# EAGLE library part DSPIC33EP512MC806-I/PT (library DSPIC33EP512MC806)
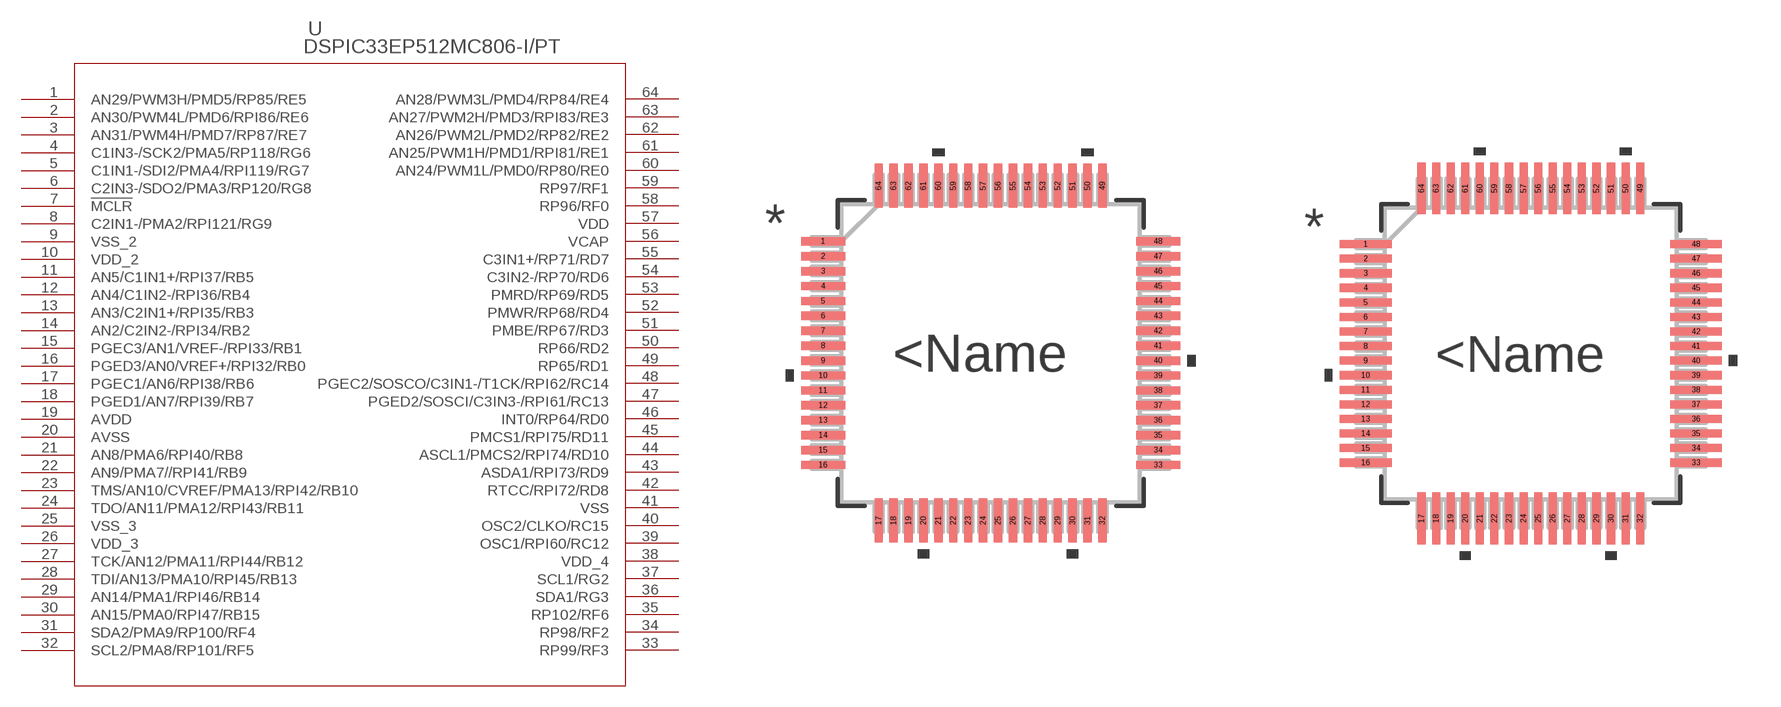
[diagram p0: symbol with the pads of TQFP64_10X10MC; footprints TQFP64_10X10MC, TQFP64_10X10MC-M]

Designator prefix -

## DSPIC33EP512MC806-I/PT (MANUFACTURER_PART_NUMBER: dspic33ep512mc806ipt; VENDOR: MICROCHIP)  [TQFP64_10X10MC]
1  AN29/PWM3H/PMD5/RP85/RE5
2  AN30/PWM4L/PMD6/RPI86/RE6
3  AN31/PWM4H/PMD7/RP87/RE7
4  C1IN3-/SCK2/PMA5/RP118/RG6
5  C1IN1-/SDI2/PMA4/RPI119/RG7
6  C2IN3-/SDO2/PMA3/RP120/RG8
7  !MCLR  pas
8  C2IN1-/PMA2/RPI121/RG9
9  VSS_2  pwr
10  VDD_2  pwr
11  AN5/C1IN1+/RPI37/RB5
12  AN4/C1IN2-/RPI36/RB4
13  AN3/C2IN1+/RPI35/RB3
14  AN2/C2IN2-/RPI34/RB2
15  PGEC3/AN1/VREF-/RPI33/RB1
16  PGED3/AN0/VREF+/RPI32/RB0
17  PGEC1/AN6/RPI38/RB6
18  PGED1/AN7/RPI39/RB7
19  AVDD  pwr
20  AVSS  pwr
21  AN8/PMA6/RPI40/RB8
22  AN9/PMA7//RPI41/RB9
23  TMS/AN10/CVREF/PMA13/RPI42/RB10
24  TDO/AN11/PMA12/RPI43/RB11
25  VSS_3  pwr
26  VDD_3  pwr
27  TCK/AN12/PMA11/RPI44/RB12
28  TDI/AN13/PMA10/RPI45/RB13
29  AN14/PMA1/RPI46/RB14
30  AN15/PMA0/RPI47/RB15
31  SDA2/PMA9/RP100/RF4
32  SCL2/PMA8/RP101/RF5
33  RP99/RF3
34  RP98/RF2
35  RP102/RF6
36  SDA1/RG3
37  SCL1/RG2
38  VDD_4  pwr
39  OSC1/RPI60/RC12
40  OSC2/CLKO/RC15
41  VSS  pwr
42  RTCC/RPI72/RD8
43  ASDA1/RPI73/RD9
44  ASCL1/PMCS2/RPI74/RD10
45  PMCS1/RPI75/RD11
46  INT0/RP64/RD0
47  PGED2/SOSCI/C3IN3-/RPI61/RC13
48  PGEC2/SOSCO/C3IN1-/T1CK/RPI62/RC14
49  RP65/RD1
50  RP66/RD2
51  PMBE/RP67/RD3
52  PMWR/RP68/RD4
53  PMRD/RP69/RD5
54  C3IN2-/RP70/RD6
55  C3IN1+/RP71/RD7
56  VCAP  pwr
57  VDD  pwr
58  RP96/RF0
59  RP97/RF1
60  AN24/PWM1L/PMD0/RP80/RE0
61  AN25/PWM1H/PMD1/RPI81/RE1
62  AN26/PWM2L/PMD2/RP82/RE2
63  AN27/PWM2H/PMD3/RPI83/RE3
64  AN28/PWM3L/PMD4/RP84/RE4

## DSPIC33EP512MC806-I/PTTQFP64_10X10MC-M (MANUFACTURER_PART_NUMBER: dspic33ep512mc806ipt; VENDOR: MICROCHIP)  [TQFP64_10X10MC-M]
Pads as for TQFP64_10X10MC

## DSPIC33EP512MC806-I/PTTQFP64_10X10MC-L (MANUFACTURER_PART_NUMBER: dspic33ep512mc806ipt; VENDOR: MICROCHIP)  [TQFP64_10X10MC-L]
Pads as for TQFP64_10X10MC

## Footprint TQFP64_10X10MC (pad centres in mm)
smd 1.473 x 0.279: 1 -5.613,3.75; 2 -5.613,3.25; 3 -5.613,2.75; 4 -5.613,2.25; 5 -5.613,1.75; 6 -5.613,1.25; 7 -5.613,0.75; 8 -5.613,0.25; 9 -5.613,-0.25; 10 -5.613,-0.75; 11 -5.613,-1.25; 12 -5.613,-1.75; 13 -5.613,-2.25; 14 -5.613,-2.75; 15 -5.613,-3.25; 16 -5.613,-3.75; 33 5.613,-3.75; 34 5.613,-3.25; 35 5.613,-2.75; 36 5.613,-2.25; 37 5.613,-1.75; 38 5.613,-1.25; 39 5.613,-0.75; 40 5.613,-0.25; 41 5.613,0.25; 42 5.613,0.75; 43 5.613,1.25; 44 5.613,1.75; 45 5.613,2.25; 46 5.613,2.75; 47 5.613,3.25; 48 5.613,3.75
smd 0.279 x 1.473: 17 -3.75,-5.613; 18 -3.25,-5.613; 19 -2.75,-5.613; 20 -2.25,-5.613; 21 -1.75,-5.613; 22 -1.25,-5.613; 23 -0.75,-5.613; 24 -0.25,-5.613; 25 0.25,-5.613; 26 0.75,-5.613; 27 1.25,-5.613; 28 1.75,-5.613; 29 2.25,-5.613; 30 2.75,-5.613; 31 3.25,-5.613; 32 3.75,-5.613; 49 3.75,5.613; 50 3.25,5.613; 51 2.75,5.613; 52 2.25,5.613; 53 1.75,5.613; 54 1.25,5.613; 55 0.75,5.613; 56 0.25,5.613; 57 -0.25,5.613; 58 -0.75,5.613; 59 -1.25,5.613; 60 -1.75,5.613; 61 -2.25,5.613; 62 -2.75,5.613; 63 -3.25,5.613; 64 -3.75,5.613

## Footprint TQFP64_10X10MC-M (pad centres in mm)
smd 1.778 x 0.279: 1 -5.664,3.75; 2 -5.664,3.25; 3 -5.664,2.75; 4 -5.664,2.25; 5 -5.664,1.75; 6 -5.664,1.25; 7 -5.664,0.75; 8 -5.664,0.25; 9 -5.664,-0.25; 10 -5.664,-0.75; 11 -5.664,-1.25; 12 -5.664,-1.75; 13 -5.664,-2.25; 14 -5.664,-2.75; 15 -5.664,-3.25; 16 -5.664,-3.75; 33 5.664,-3.75; 34 5.664,-3.25; 35 5.664,-2.75; 36 5.664,-2.25; 37 5.664,-1.75; 38 5.664,-1.25; 39 5.664,-0.75; 40 5.664,-0.25; 41 5.664,0.25; 42 5.664,0.75; 43 5.664,1.25; 44 5.664,1.75; 45 5.664,2.25; 46 5.664,2.75; 47 5.664,3.25; 48 5.664,3.75
smd 0.279 x 1.778: 17 -3.75,-5.664; 18 -3.25,-5.664; 19 -2.75,-5.664; 20 -2.25,-5.664; 21 -1.75,-5.664; 22 -1.25,-5.664; 23 -0.75,-5.664; 24 -0.25,-5.664; 25 0.25,-5.664; 26 0.75,-5.664; 27 1.25,-5.664; 28 1.75,-5.664; 29 2.25,-5.664; 30 2.75,-5.664; 31 3.25,-5.664; 32 3.75,-5.664; 49 3.75,5.664; 50 3.25,5.664; 51 2.75,5.664; 52 2.25,5.664; 53 1.75,5.664; 54 1.25,5.664; 55 0.75,5.664; 56 0.25,5.664; 57 -0.25,5.664; 58 -0.75,5.664; 59 -1.25,5.664; 60 -1.75,5.664; 61 -2.25,5.664; 62 -2.75,5.664; 63 -3.25,5.664; 64 -3.75,5.664

## Footprint TQFP64_10X10MC-L (pad centres in mm)
smd 1.168 x 0.279: 1 -5.563,3.75; 2 -5.563,3.25; 3 -5.563,2.75; 4 -5.563,2.25; 5 -5.563,1.75; 6 -5.563,1.25; 7 -5.563,0.75; 8 -5.563,0.25; 9 -5.563,-0.25; 10 -5.563,-0.75; 11 -5.563,-1.25; 12 -5.563,-1.75; 13 -5.563,-2.25; 14 -5.563,-2.75; 15 -5.563,-3.25; 16 -5.563,-3.75; 33 5.563,-3.75; 34 5.563,-3.25; 35 5.563,-2.75; 36 5.563,-2.25; 37 5.563,-1.75; 38 5.563,-1.25; 39 5.563,-0.75; 40 5.563,-0.25; 41 5.563,0.25; 42 5.563,0.75; 43 5.563,1.25; 44 5.563,1.75; 45 5.563,2.25; 46 5.563,2.75; 47 5.563,3.25; 48 5.563,3.75
smd 0.279 x 1.168: 17 -3.75,-5.563; 18 -3.25,-5.563; 19 -2.75,-5.563; 20 -2.25,-5.563; 21 -1.75,-5.563; 22 -1.25,-5.563; 23 -0.75,-5.563; 24 -0.25,-5.563; 25 0.25,-5.563; 26 0.75,-5.563; 27 1.25,-5.563; 28 1.75,-5.563; 29 2.25,-5.563; 30 2.75,-5.563; 31 3.25,-5.563; 32 3.75,-5.563; 49 3.75,5.563; 50 3.25,5.563; 51 2.75,5.563; 52 2.25,5.563; 53 1.75,5.563; 54 1.25,5.563; 55 0.75,5.563; 56 0.25,5.563; 57 -0.25,5.563; 58 -0.75,5.563; 59 -1.25,5.563; 60 -1.75,5.563; 61 -2.25,5.563; 62 -2.75,5.563; 63 -3.25,5.563; 64 -3.75,5.563